# Altium schematic symbol library FFC2B35-10-T.SchLib: 1 symbol
Pins are listed as number, name and electrical type; pins without a type are passive.

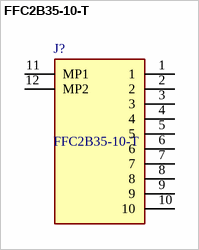
[diagram p0: symbol FFC2B35-10-T]

## FFC2B35-10-T
designator J?
10 Position FFC, FPC Connector Contacts, Bottom 0.020" (0.50mm) Surface Mount, Right Angle; Manufacturer_Name: GCT (GLOBAL CONNECTOR TECHNOLOGY); Geometry.Height: 2.2mm; TME Electronic Components Part Number: *; TME Electronic Components Price/Stock: *; Manufacturer_Part_Number: FFC2B35-10-T; Datasheet Link: https://gct.co/files/drawings/ffc2b35.pdf
footprint FFC2B3510T
pins: 1, 2, 3, 4, 5, 6, 7, 8, 9, 10, 11 MP1, 12 MP2